# Altium schematic symbol library Cap.SchLib: 1 symbol
Pins are listed as number, name and electrical type; pins without a type are passive.

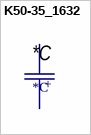
[diagram p0: symbol K50-35_1632]

## K50-35_1632
designator *C, comment *C
footprint 1632 (K50-35-25V_1632)
text: +